# EAGLE library part DIN41612_H11 (library EW_00_Ken)
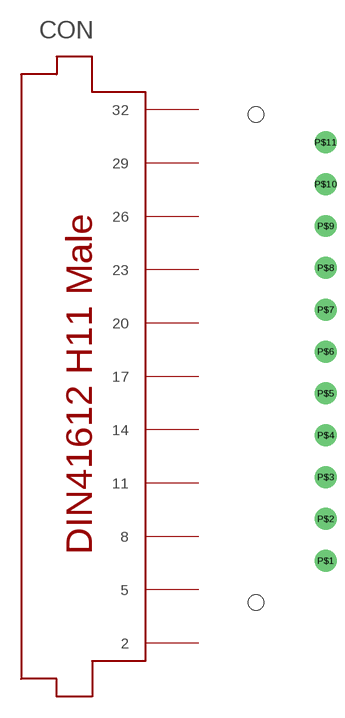
[diagram p16: symbol with the pads of DIN41612_H11; footprint DIN41612_H11]

Designator prefix CON

## DIN41612_H11  [DIN41612_H11]
P$1  2
P$2  5
P$3  8
P$4  11
P$5  14
P$6  17
P$7  20
P$8  23
P$9  26
P$10  29
P$11  32

## Footprint DIN41612_H11 (pad centres in mm)
drill 1.6 pad 4: P$1 12.7,7.62; P$2 12.7,15.24; P$3 12.7,22.86; P$4 12.7,30.48; P$5 12.7,38.1; P$6 12.7,45.72; P$7 12.7,53.34; P$8 12.7,60.96; P$9 12.7,68.58; P$10 12.7,76.2; P$11 12.7,83.82
hole 2.8 at 0,0
hole 2.8 at 0,88.9